# EAGLE library part CC3100R11MRGC (library IC)
IC RF TXRX+MCU WIFI 64VFQFN Manufacturer's datasheet <http://www.ti.com/general/docs/suppproductinfo.tsp?distId=10&gotoUrl=http%3A%2F%2Fwww.ti.com%2Flit%2Fgpn%2Fcc3100>
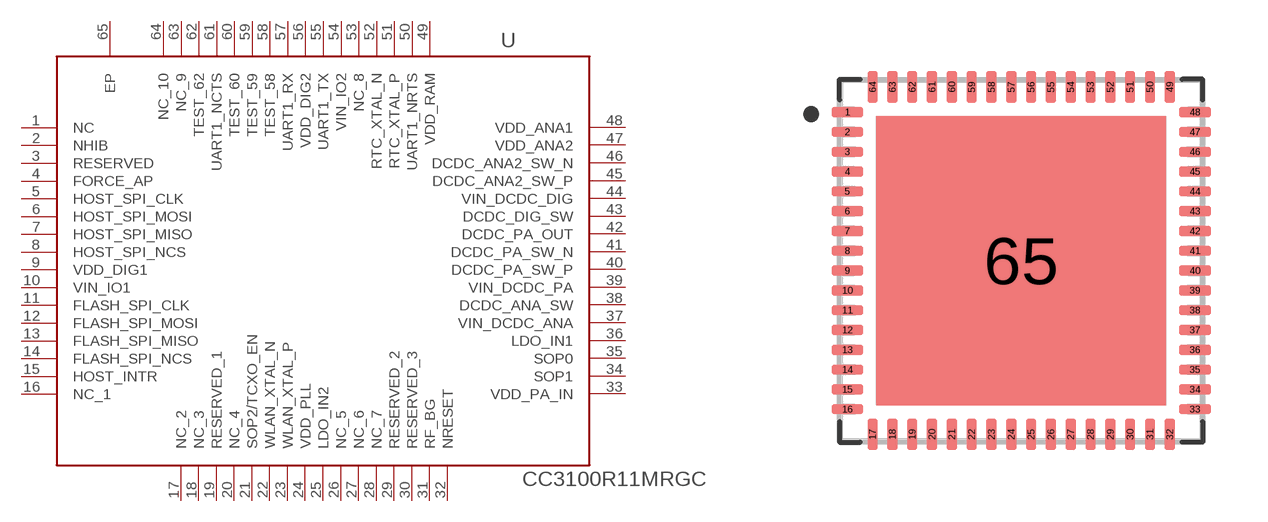
[diagram p24: symbol with the pads of VQFN-64(9X9); footprint VQFN-64(9X9)]

Designator prefix U

## CC3100R11MRGC (CREATED_BY: PCBLayout.com; DIGI-KEY_PART: 296-38010-ND; MANUFACTURER: Texas Instruments; MPN: CC3100R11MRGC; PACKAGE: VFQFN-64)  [VQFN-64(9X9)]
1  NC  pas
2  NHIB  in
3  RESERVED  pas
4  FORCE_AP  in
5  HOST_SPI_CLK  in
6  HOST_SPI_MOSI  in
7  HOST_SPI_MISO  out
8  HOST_SPI_NCS  in
9  VDD_DIG1  pwr
10  VIN_IO1  pwr
11  FLASH_SPI_CLK  out
12  FLASH_SPI_MOSI  out
13  FLASH_SPI_MISO  in
14  FLASH_SPI_NCS  out
15  HOST_INTR  out
16  NC_1  pas
17  NC_2  pas
18  NC_3  pas
19  RESERVED_1  pas
20  NC_4  pas
21  SOP2/TCXO_EN  out
22  WLAN_XTAL_N  pas
23  WLAN_XTAL_P  pas
24  VDD_PLL  pwr
25  LDO_IN2  pwr
26  NC_5  pas
27  NC_6  pas
28  NC_7  pas
29  RESERVED_2  pas
30  RESERVED_3  pas
31  RF_BG  pas
32  NRESET  in
33  VDD_PA_IN  pwr
34  SOP1  pas
35  SOP0  pas
36  LDO_IN1  pwr
37  VIN_DCDC_ANA  pwr
38  DCDC_ANA_SW  pwr
39  VIN_DCDC_PA  pwr
40  DCDC_PA_SW_P  pwr
41  DCDC_PA_SW_N  pwr
42  DCDC_PA_OUT  pwr
43  DCDC_DIG_SW  pwr
44  VIN_DCDC_DIG  pwr
45  DCDC_ANA2_SW_P  pwr
46  DCDC_ANA2_SW_N  pwr
47  VDD_ANA2  pwr
48  VDD_ANA1  pwr
49  VDD_RAM  pwr
50  UART1_NRTS  out
51  RTC_XTAL_P  pas
52  RTC_XTAL_N  pas
53  NC_8  pas
54  VIN_IO2  pwr
55  UART1_TX  out
56  VDD_DIG2  pwr
57  UART1_RX  in
58  TEST_58  pas
59  TEST_59  pas
60  TEST_60  out
61  UART1_NCTS  in
62  TEST_62  out
63  NC_9  pas
64  NC_10  pas
65  EP  pwr

## Footprint VQFN-64(9X9) (pad centres in mm)
Quad Flat No-Lead (QFN with Tab), 0.50 mm pitch; square, 16 pin X 16 pin, 9.00 mm L X 9.00 mm W X 1.00 mm H body PCB Libraries Packages
smd 0.8 x 0.26: 1 -4.385,3.75; 2 -4.385,3.25; 3 -4.385,2.75; 4 -4.385,2.25; 5 -4.385,1.75; 6 -4.385,1.25; 7 -4.385,0.75; 8 -4.385,0.25; 9 -4.385,-0.25; 10 -4.385,-0.75; 11 -4.385,-1.25; 12 -4.385,-1.75; 13 -4.385,-2.25; 14 -4.385,-2.75; 15 -4.385,-3.25; 16 -4.385,-3.75; 33 4.385,-3.75; 34 4.385,-3.25; 35 4.385,-2.75; 36 4.385,-2.25; 37 4.385,-1.75; 38 4.385,-1.25; 39 4.385,-0.75; 40 4.385,-0.25; 41 4.385,0.25; 42 4.385,0.75; 43 4.385,1.25; 44 4.385,1.75; 45 4.385,2.25; 46 4.385,2.75; 47 4.385,3.25; 48 4.385,3.75
smd 0.26 x 0.8: 17 -3.75,-4.385; 18 -3.25,-4.385; 19 -2.75,-4.385; 20 -2.25,-4.385; 21 -1.75,-4.385; 22 -1.25,-4.385; 23 -0.75,-4.385; 24 -0.25,-4.385; 25 0.25,-4.385; 26 0.75,-4.385; 27 1.25,-4.385; 28 1.75,-4.385; 29 2.25,-4.385; 30 2.75,-4.385; 31 3.25,-4.385; 32 3.75,-4.385; 49 3.75,4.385; 50 3.25,4.385; 51 2.75,4.385; 52 2.25,4.385; 53 1.75,4.385; 54 1.25,4.385; 55 0.75,4.385; 56 0.25,4.385; 57 -0.25,4.385; 58 -0.75,4.385; 59 -1.25,4.385; 60 -1.75,4.385; 61 -2.25,4.385; 62 -2.75,4.385; 63 -3.25,4.385; 64 -3.75,4.385
smd 7.3 x 7.3: 65 0,0